# Altium integrated library TI Power Management Battery Management.IntLib: 949 symbols (part 45 of 62)
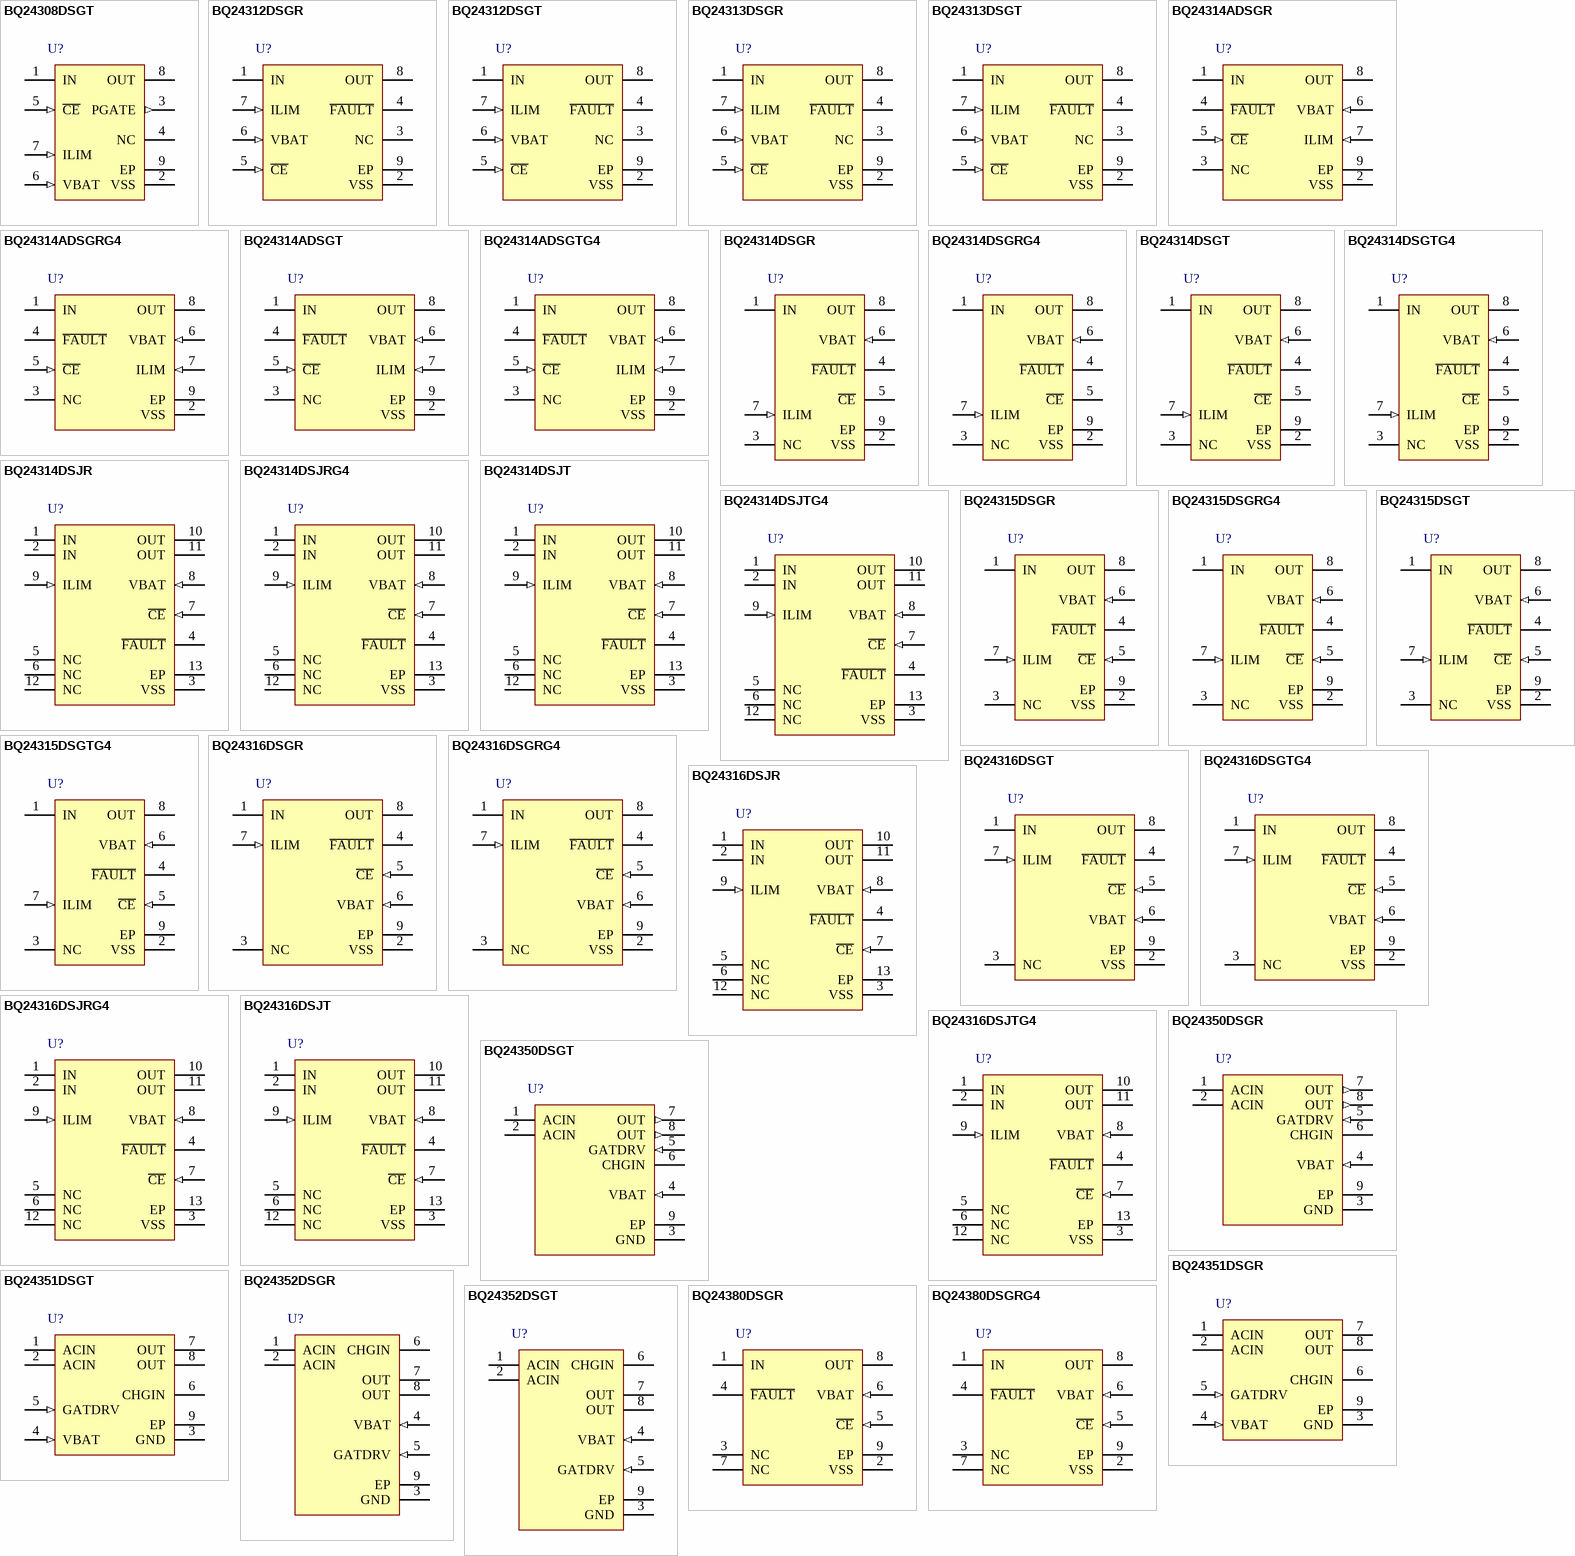
[diagram p78: symbols BQ24308DSGT to BQ24380DSGRG4]

## BQ24316DSJTG4
designator U?
Charger Front End Protection IC with 30 V Max Vin and 6.8 V OVP, -40 to 85 degC, 12-pin VSON (DSJ), Green (RoHS & no Sb/Br); PartNumber: BQ24316DSJTG4; Manufacturer: Texas Instruments; Lead Acid: N; DatasheetVersion: SLUS763C; PackageVersion: revC, Jun-2011; PackageReference: DSJ12-3300X1700TP; PackageDescription: 12-Pin Plastic Small Outline No-Lead, 3 x 4 x 1 mm Body, 0.5 mm Pitch, Exposed Pad; Supplier 1: Digi-Key; Supplier Part Number 1: BQ24316DSJTG4-ND; Supplier 2: Mouser; Supplier Part Number 2: 595-BQ24316DSJTG4; Eco-Plan: Green (RoHS & no Sb/Br); Li-Ion: N; Li-Polymer: N; NiCd: N; NiMH: N; Over Voltage Protection: N; SubFamily: Charger Front End Protection; Mounting Technology: Surface Mount; Code_JEDEC: MO-229; ComponentLink1Description: Datasheet; ComponentLink1URL: http://www.ti.com/general/docs/lit/getliterature.tsp?genericPartNumber=BQ24316&fileType=pdf
footprint DSJ12-3300X1700TP (SON, 12-Leads, Body 3x4mm, Pitch 0.5mm, Thermal Pad 3.3x1.7mm)
pins: 1 IN (power) "Input power, connect to external DC supply. Connect external 1uF ceramic capacitor (minimum) to VSS. For the 12 pin (DSJ-suffix) device, ensure that pins 1 and 2 are connected together on the PCB at the device.", 2 IN (power) "Input power, connect to external DC supply. Connect external 1uF ceramic capacitor (minimum) to VSS. For the 12 pin (DSJ-suffix) device, ensure that pins 1 and 2 are connected together on the PCB at the device.", 3 VSS (power) "Ground terminal", 4 ~{FAULT} (hiz) "Open-drain output, device status. F\A\U\L\T\ = Low indicates that the input FET Q1 has been turned off due to input overvoltage, input overcurrent, battery overvoltage, or thermal shutdown.", 5 NC "These pins may have internal circuits used for test purposes. Do not make any external connections at these pins for normal operation.", 6 NC "These pins may have internal circuits used for test purposes. Do not make any external connections at these pins for normal operation.", 7 ~{CE} (in) "Chip enable input. Active low. When C\E\ = High, the input FET is off. Internally pulled down.", 8 VBAT (in) "Battery voltage sense input. Connect to pack positive terminal through a resistor.", 9 ILIM (in) "Input overcurrent threshold programming. Connect a resistor to VSS to set the overcurrent threshold.", 10 OUT (power) "Output terminal to the charging system. Connect external 1uF ceramic capacitor (minimum) to VSS.", 11 OUT (power) "Output terminal to the charging system. Connect external 1uF ceramic capacitor (minimum) to VSS.", 12 NC "These pins may have internal circuits used for test purposes. Do not make any external connections at these pins for normal operation.", 13 EP (power) "There is an internal electrical connection between the exposed thermal pad and the VSS pin of the device. The thermal pad must be connected to the same potential as the VSS pin on the printed circuit board. Do not use the (See Datasheet)"

## BQ24350DSGR
designator U?
Over-Voltage and Over-Current Charger Front-End Protection IC with FET, 6.17 Input OVP, -40 to 85 degC, 8-pin WSON (DSG), Green (RoHS & no Sb/Br); PartNumber: BQ24350DSGR; Manufacturer: Texas Instruments; Lead Acid: N; SubFamily: Charger Front End Protection; DatasheetVersion: SLUS943A; PackageVersion: revB, Oct-2010; PackageReference: DSG8-1600X900TP; PackageDescription: 8-Pin Plastic Small Outline No-Lead, 2 x 2 x 0.8 mm Body, 0.5 mm Pitch, Exposed Pad; Supplier 1: Digi-Key; Supplier Part Number 1: 296-24528-2-ND; Supplier 2: Digi-Key; Supplier Part Number 2: 296-24528-1-ND; Supplier 3: Digi-Key; Supplier Part Number 3: 296-24528-6-ND; Supplier 4: Newark; Supplier Part Number 4: 24R9058; Supplier 5: Mouser; Supplier Part Number 5: 595-BQ24350DSGR; Eco-Plan: Green (RoHS & no Sb/Br); Li-Ion: N; Li-Polymer: N; NiCd: N; NiMH: N; Over Voltage Protection: N; Mounting Technology: Surface Mount; Code_JEDEC: MO-229; ComponentLink1Description: Datasheet; ComponentLink1URL: http://www.ti.com/general/docs/lit/getliterature.tsp?genericPartNumber=BQ24350&fileType=pdf
footprint DSG8-1600X900TP (SON, 8-Leads, Body 2x2mm, Pitch 0.5mm, Thermal Pad 1.6x0.9mm, TI Recommended)
pins: 1 ACIN (power) "Power Supply Input, connect to an external DC supply. Connect an external 1uF ceramic capacitor (minimum) to GND.", 2 ACIN (power) "Power Supply Input, connect to an external DC supply. Connect an external 1uF ceramic capacitor (minimum) to GND.", 3 GND (power) "Ground terminal", 4 VBAT (in) "Battery voltage sense input. Connected to pack positive terminal through a resistor. Connected to ground if battery OVP function is not used.", 5 GATDRV (in) "P-FET gate drive input , connected to gate drive pin of the host charger controller", 6 CHGIN (power) "Output power pin for power input of host charger controller. Connect an external ceramic bypass capacitor (1.0uF minimum) to GND.", 7 OUT (out) "Output terminal to the charging system.", 8 OUT (out) "Output terminal to the charging system.", 9 EP (power) "There is an internal electrical connection between the exposed thermal pad and the GND pin of the device. The thermal pad must be connected to the same potential as the GND pin on the printed circuit board. Do not use the (See Datasheet)"

## BQ24350DSGT
designator U?
Over-Voltage and Over-Current Charger Front-End Protection IC with FET, 6.17 Input OVP, -40 to 85 degC, 8-pin WSON (DSG), Green (RoHS & no Sb/Br); PartNumber: BQ24350DSGT; Manufacturer: Texas Instruments; Lead Acid: N; SubFamily: Charger Front End Protection; DatasheetVersion: SLUS943A; PackageVersion: revB, Oct-2010; PackageReference: DSG8-1600X900TP; PackageDescription: 8-Pin Plastic Small Outline No-Lead, 2 x 2 x 0.8 mm Body, 0.5 mm Pitch, Exposed Pad; Supplier 1: Digi-Key; Supplier Part Number 1: BQ24350DSGT-ND; Supplier 2: Newark; Supplier Part Number 2: 24R9059; Supplier 3: Mouser; Supplier Part Number 3: 595-BQ24350DSGT; Eco-Plan: Green (RoHS & no Sb/Br); Li-Ion: N; Li-Polymer: N; NiCd: N; NiMH: N; Over Voltage Protection: N; Mounting Technology: Surface Mount; Code_JEDEC: MO-229; ComponentLink1Description: Datasheet; ComponentLink1URL: http://www.ti.com/general/docs/lit/getliterature.tsp?genericPartNumber=BQ24350&fileType=pdf
footprint DSG8-1600X900TP (SON, 8-Leads, Body 2x2mm, Pitch 0.5mm, Thermal Pad 1.6x0.9mm, TI Recommended)
pins: 1 ACIN (power) "Power Supply Input, connect to an external DC supply. Connect an external 1uF ceramic capacitor (minimum) to GND.", 2 ACIN (power) "Power Supply Input, connect to an external DC supply. Connect an external 1uF ceramic capacitor (minimum) to GND.", 3 GND (power) "Ground terminal", 4 VBAT (in) "Battery voltage sense input. Connected to pack positive terminal through a resistor. Connected to ground if battery OVP function is not used.", 5 GATDRV (in) "P-FET gate drive input , connected to gate drive pin of the host charger controller", 6 CHGIN (power) "Output power pin for power input of host charger controller. Connect an external ceramic bypass capacitor (1.0uF minimum) to GND.", 7 OUT (out) "Output terminal to the charging system.", 8 OUT (out) "Output terminal to the charging system.", 9 EP (power) "There is an internal electrical connection between the exposed thermal pad and the GND pin of the device. The thermal pad must be connected to the same potential as the GND pin on the printed circuit board. Do not use the (See Datasheet)"

## BQ24351DSGR
designator U?
Over Voltage and Over-Current Charger Front-End Protection IC with Integrated Charging FET, -40 to 85 degC, 8-pin WSON (DSG), Green (RoHS & no Sb/Br); PartNumber: BQ24351DSGR; Manufacturer: Texas Instruments; Lead Acid: N; Over Voltage Protection: Y; SubFamily: Charger Front End Protection; DatasheetVersion: SLUSA62A; PackageVersion: revB, Oct-2010; PackageReference: DSG8-1600X900TP; PackageDescription: 8-Pin Plastic Small Outline No-Lead, 2 x 2 x 0.8 mm Body, 0.5 mm Pitch, Exposed Pad; Supplier 1: Digi-Key; Supplier Part Number 1: BQ24351DSGR-ND; Supplier 2: Mouser; Supplier Part Number 2: 595-BQ24351DSGR; Eco-Plan: Green (RoHS & no Sb/Br); Li-Ion: N; Li-Polymer: N; NiCd: N; NiMH: N; Mounting Technology: Surface Mount; Code_JEDEC: MO-229; ComponentLink1Description: Datasheet; ComponentLink1URL: http://www.ti.com/general/docs/lit/getliterature.tsp?genericPartNumber=BQ24351&fileType=pdf
footprint DSG8-1600X900TP (SON, 8-Leads, Body 2x2mm, Pitch 0.5mm, Thermal Pad 1.6x0.9mm, TI Recommended)
pins: 1 ACIN (power) "Power Supply Input, connect to an external DC supply. Connect an external 1-uF ceramic capacitor (minimum) to GND.", 2 ACIN (power) "Power Supply Input, connect to an external DC supply. Connect an external 1-uF ceramic capacitor (minimum) to GND.", 3 GND (power) "Ground terminal", 4 VBAT (in) "Battery voltage sense input. Connected to pack positive terminal through a resistor. Connected to ground if battery OVP function is not used.", 5 GATDRV (in) "P-FET gate drive input , connected to gate drive pin of the host charger controller", 6 CHGIN (power) "Output power pin for power input of host charger controller. Connect an external ceramic bypass capacitor (1.0-uF minimum) to GND.", 7 OUT (power) "Output terminal to the charging system.", 8 OUT (power) "Output terminal to the charging system.", 9 EP (power) "There is an internal electrical connection between the exposed thermal pad and the GND pin of the device. The thermal pad must be connected to the same potential as the GND pin on the printed circuit board. Do not use the (See Datasheet)"

## BQ24351DSGT
designator U?
Over-Voltage and Over-Current Charger Front-End Protection IC with Integrated Charging FET, -40 to 85 degC, 8-pin WSON (DSG), Green (RoHS & no Sb/Br); PartNumber: BQ24351DSGT; Manufacturer: Texas Instruments; Lead Acid: N; Over Voltage Protection: Y; SubFamily: Charger Front End Protection; DatasheetVersion: SLUSA62A; PackageVersion: revB, Oct-2010; PackageReference: DSG8-1600X900TP; PackageDescription: 8-Pin Plastic Small Outline No-Lead, 2 x 2 x 0.8 mm Body, 0.5 mm Pitch, Exposed Pad; Supplier 1: Digi-Key; Supplier Part Number 1: 296-27913-2-ND; Supplier 2: Digi-Key; Supplier Part Number 2: 296-27913-1-ND; Supplier 3: Digi-Key; Supplier Part Number 3: 296-27913-6-ND; Supplier 4: Newark; Supplier Part Number 4: 13T1943; Supplier 5: Mouser; Supplier Part Number 5: 595-BQ24351DSGT; Eco-Plan: Green (RoHS & no Sb/Br); Li-Ion: N; Li-Polymer: N; NiCd: N; NiMH: N; Mounting Technology: Surface Mount; Code_JEDEC: MO-229; ComponentLink1Description: Datasheet; ComponentLink1URL: http://www.ti.com/general/docs/lit/getliterature.tsp?genericPartNumber=BQ24351&fileType=pdf
footprint DSG8-1600X900TP (SON, 8-Leads, Body 2x2mm, Pitch 0.5mm, Thermal Pad 1.6x0.9mm, TI Recommended)
pins: 1 ACIN (power) "Power Supply Input, connect to an external DC supply. Connect an external 1-uF ceramic capacitor (minimum) to GND.", 2 ACIN (power) "Power Supply Input, connect to an external DC supply. Connect an external 1-uF ceramic capacitor (minimum) to GND.", 3 GND (power) "Ground terminal", 4 VBAT (in) "Battery voltage sense input. Connected to pack positive terminal through a resistor. Connected to ground if battery OVP function is not used.", 5 GATDRV (in) "P-FET gate drive input , connected to gate drive pin of the host charger controller", 6 CHGIN (power) "Output power pin for power input of host charger controller. Connect an external ceramic bypass capacitor (1.0-uF minimum) to GND.", 7 OUT (power) "Output terminal to the charging system.", 8 OUT (power) "Output terminal to the charging system.", 9 EP (power) "There is an internal electrical connection between the exposed thermal pad and the GND pin of the device. The thermal pad must be connected to the same potential as the GND pin on the printed circuit board. Do not use the (See Datasheet)"

## BQ24352DSGR
designator U?
Over Voltage and Over-Current Charger Front-End Protection IC with FET, 7.1 Input OVP, -40 to 85 degC, 8-pin WSON (DSG), Green (RoHS & no Sb/Br); PartNumber: BQ24352DSGR; Manufacturer: Texas Instruments; Lead Acid: N; SubFamily: Charger Front End Protection; DatasheetVersion: SLUS943A; PackageVersion: revB, Oct-2010; PackageReference: DSG8-1600X900TP; PackageDescription: 8-Pin Plastic Small Outline No-Lead, 2 x 2 x 0.8 mm Body, 0.5 mm Pitch, Exposed Pad; Supplier 1: Digi-Key; Supplier Part Number 1: 296-24859-2-ND; Supplier 2: Digi-Key; Supplier Part Number 2: 296-24859-1-ND; Supplier 3: Digi-Key; Supplier Part Number 3: 296-24859-6-ND; Supplier 4: Mouser; Supplier Part Number 4: 595-BQ24352DSGR; Eco-Plan: Green (RoHS & no Sb/Br); Li-Ion: N; Li-Polymer: N; NiCd: N; NiMH: N; Over Voltage Protection: N; Mounting Technology: Surface Mount; Code_JEDEC: MO-229; ComponentLink1Description: Datasheet; ComponentLink1URL: http://www.ti.com/general/docs/lit/getliterature.tsp?genericPartNumber=BQ24352&fileType=pdf
footprint DSG8-1600X900TP (SON, 8-Leads, Body 2x2mm, Pitch 0.5mm, Thermal Pad 1.6x0.9mm, TI Recommended)
pins: 1 ACIN (power) "Power Supply Input, connect to an external DC supply. Connect an external 1 uF ceramic capacitor (minimum) to GND.", 2 ACIN (power) "Power Supply Input, connect to an external DC supply. Connect an external 1 uF ceramic capacitor (minimum) to GND.", 3 GND (power) "Ground terminal.", 4 VBAT (in) "Battery voltage sense input. Connected to pack positive terminal through a resistor. Connected to ground if battery OVP function is not used.", 5 GATDRV (in) "P-FET gate drive input , connected to gate drive pin of the host charger controller.", 6 CHGIN (power) "Output power pin for power input of host charger controller. Connect an external ceramic bypass capacitor (1.0 uF minimum) to GND.", 7 OUT (power) "Output terminal to the charging system.", 8 OUT (power) "Output terminal to the charging system.", 9 EP (power) "There is an internal electrical connection between the exposed thermal pad and the GND pin of the device. The thermal pad must be connected to the same potential as the GND pin on the printed circuit board. Do not use the (See Datasheet)"

## BQ24352DSGT
designator U?
Over Voltage and Over-Current Charger Front-End Protection IC with FET, 7.1 Input OVP, -40 to 85 degC, 8-pin WSON (DSG), Green (RoHS & no Sb/Br); PartNumber: BQ24352DSGT; Manufacturer: Texas Instruments; Lead Acid: N; SubFamily: Charger Front End Protection; DatasheetVersion: SLUS943A; PackageVersion: revB, Oct-2010; PackageReference: DSG8-1600X900TP; PackageDescription: 8-Pin Plastic Small Outline No-Lead, 2 x 2 x 0.8 mm Body, 0.5 mm Pitch, Exposed Pad; Supplier 1: Digi-Key; Supplier Part Number 1: BQ24352DSGT-ND; Supplier 2: Mouser; Supplier Part Number 2: 595-BQ24352DSGT; Eco-Plan: Green (RoHS & no Sb/Br); Li-Ion: N; Li-Polymer: N; NiCd: N; NiMH: N; Over Voltage Protection: N; Mounting Technology: Surface Mount; Code_JEDEC: MO-229; ComponentLink1Description: Datasheet; ComponentLink1URL: http://www.ti.com/general/docs/lit/getliterature.tsp?genericPartNumber=BQ24352&fileType=pdf
footprint DSG8-1600X900TP (SON, 8-Leads, Body 2x2mm, Pitch 0.5mm, Thermal Pad 1.6x0.9mm, TI Recommended)
pins: 1 ACIN (power) "Power Supply Input, connect to an external DC supply. Connect an external 1 uF ceramic capacitor (minimum) to GND.", 2 ACIN (power) "Power Supply Input, connect to an external DC supply. Connect an external 1 uF ceramic capacitor (minimum) to GND.", 3 GND (power) "Ground terminal.", 4 VBAT (in) "Battery voltage sense input. Connected to pack positive terminal through a resistor. Connected to ground if battery OVP function is not used.", 5 GATDRV (in) "P-FET gate drive input , connected to gate drive pin of the host charger controller.", 6 CHGIN (power) "Output power pin for power input of host charger controller. Connect an external ceramic bypass capacitor (1.0 uF minimum) to GND.", 7 OUT (power) "Output terminal to the charging system.", 8 OUT (power) "Output terminal to the charging system.", 9 EP (power) "There is an internal electrical connection between the exposed thermal pad and the GND pin of the device. The thermal pad must be connected to the same potential as the GND pin on the printed circuit board. Do not use the (See Datasheet)"

## BQ24380DSGR
designator U?
Overvoltage / Overcurrent Protection IC and Li+ Charger Front End Protection IC with LDO Mode, 6.3 OVP, -40 to 125 degC, 8-pin WSON (DSG), Green (RoHS & no Sb/Br); PartNumber: BQ24380DSGR; Manufacturer: Texas Instruments; Lead Acid: N; DatasheetVersion: SLUS805B; PackageVersion: revB, Oct-2010; PackageReference: DSG8-1600X900TP; PackageDescription: 8-Pin Plastic Small Outline No-Lead, 2 x 2 x 0.8 mm Body, 0.5 mm Pitch, Exposed Pad; Supplier 1: Digi-Key; Supplier Part Number 1: 296-23385-2-ND; Supplier 2: Digi-Key; Supplier Part Number 2: 296-23385-1-ND; Supplier 3: Digi-Key; Supplier Part Number 3: 296-23385-6-ND; Supplier 4: Mouser; Supplier Part Number 4: 595-BQ24380DSGR; Eco-Plan: Green (RoHS & no Sb/Br); Li-Ion: N; Li-Polymer: N; NiCd: N; NiMH: N; Over Voltage Protection: N; SubFamily: Charger Front End Protection; Mounting Technology: Surface Mount; Code_JEDEC: MO-229; ComponentLink1Description: Datasheet; ComponentLink1URL: http://www.ti.com/general/docs/lit/getliterature.tsp?genericPartNumber=BQ24380&fileType=pdf
footprint DSG8-1600X900TP (SON, 8-Leads, Body 2x2mm, Pitch 0.5mm, Thermal Pad 1.6x0.9mm, TI Recommended)
pins: 1 IN (power) "Input power, connected to external DC supply. Bypass IN to VSS with a ceramic capacitor (1 uF minimum)", 2 VSS (power) "Ground terminal. Connect to the thermal pad and to the ground rail of the circuit", 3 NC "Do not connect to any external circuits. These pins may have internal connections used for test purposes.", 4 ~{FAULT} (hiz) "Open-drain device status output. F\A\U\L\T\ is pulled to VSS internally when the input pass FET has been turned off due to input overvoltage or output short-circuit conditions, an overtemperature condition, or because the (See Datasheet)", 5 ~{CE} (in) "Active-low chip enable input. Connect C\E\ = HI to turn the input pass FET off. Connect C\E\ = LOW to turn the internal pass FET on and connect the input to the charging circuitry. C\E\ is Internally pulled down, ~200 k ohm.", 6 VBAT (in) "Battery voltage sense input. Connected to pack positive terminal through a 100-k ohm resistor", 7 NC "Do not connect to any external circuits. These pins may have internal connections used for test purposes.", 8 OUT (power) "Output terminal to the charging system. Bypass OUT to VSS with a ceramic capacitor (1 uF minimum)", 9 EP (power) "The thermal pad is electrically connected to VSS internally. The thermal pad must be connected to the same potential as the VSS pin on the printed circuit board. Do not use the thermal pad as the primary ground input for the (See Datasheet)"

## BQ24380DSGRG4
designator U?
Overvoltage / Overcurrent Protection IC and Li+ Charger Front End Protection IC with LDO Mode, 6.3 OVP, -40 to 125 degC, 8-pin WSON (DSG), Green (RoHS & no Sb/Br); PartNumber: BQ24380DSGRG4; Manufacturer: Texas Instruments; Lead Acid: N; DatasheetVersion: SLUS805B; PackageVersion: revB, Oct-2010; PackageReference: DSG8-1600X900TP; PackageDescription: 8-Pin Plastic Small Outline No-Lead, 2 x 2 x 0.8 mm Body, 0.5 mm Pitch, Exposed Pad; Supplier 1: Digi-Key; Supplier Part Number 1: BQ24380DSGRG4-ND; Supplier 2: Mouser; Supplier Part Number 2: 595-BQ24380DSGRG4; Eco-Plan: Green (RoHS & no Sb/Br); Li-Ion: N; Li-Polymer: N; NiCd: N; NiMH: N; Over Voltage Protection: N; SubFamily: Charger Front End Protection; Mounting Technology: Surface Mount; Code_JEDEC: MO-229; ComponentLink1Description: Datasheet; ComponentLink1URL: http://www.ti.com/general/docs/lit/getliterature.tsp?genericPartNumber=BQ24380&fileType=pdf
footprint DSG8-1600X900TP (SON, 8-Leads, Body 2x2mm, Pitch 0.5mm, Thermal Pad 1.6x0.9mm, TI Recommended)
pins: 1 IN (power) "Input power, connected to external DC supply. Bypass IN to VSS with a ceramic capacitor (1 uF minimum)", 2 VSS (power) "Ground terminal. Connect to the thermal pad and to the ground rail of the circuit", 3 NC "Do not connect to any external circuits. These pins may have internal connections used for test purposes.", 4 ~{FAULT} (hiz) "Open-drain device status output. F\A\U\L\T\ is pulled to VSS internally when the input pass FET has been turned off due to input overvoltage or output short-circuit conditions, an overtemperature condition, or because the (See Datasheet)", 5 ~{CE} (in) "Active-low chip enable input. Connect C\E\ = HI to turn the input pass FET off. Connect C\E\ = LOW to turn the internal pass FET on and connect the input to the charging circuitry. C\E\ is Internally pulled down, ~200 k ohm.", 6 VBAT (in) "Battery voltage sense input. Connected to pack positive terminal through a 100-k ohm resistor", 7 NC "Do not connect to any external circuits. These pins may have internal connections used for test purposes.", 8 OUT (power) "Output terminal to the charging system. Bypass OUT to VSS with a ceramic capacitor (1 uF minimum)", 9 EP (power) "The thermal pad is electrically connected to VSS internally. The thermal pad must be connected to the same potential as the VSS pin on the printed circuit board. Do not use the thermal pad as the primary ground input for the (See Datasheet)"

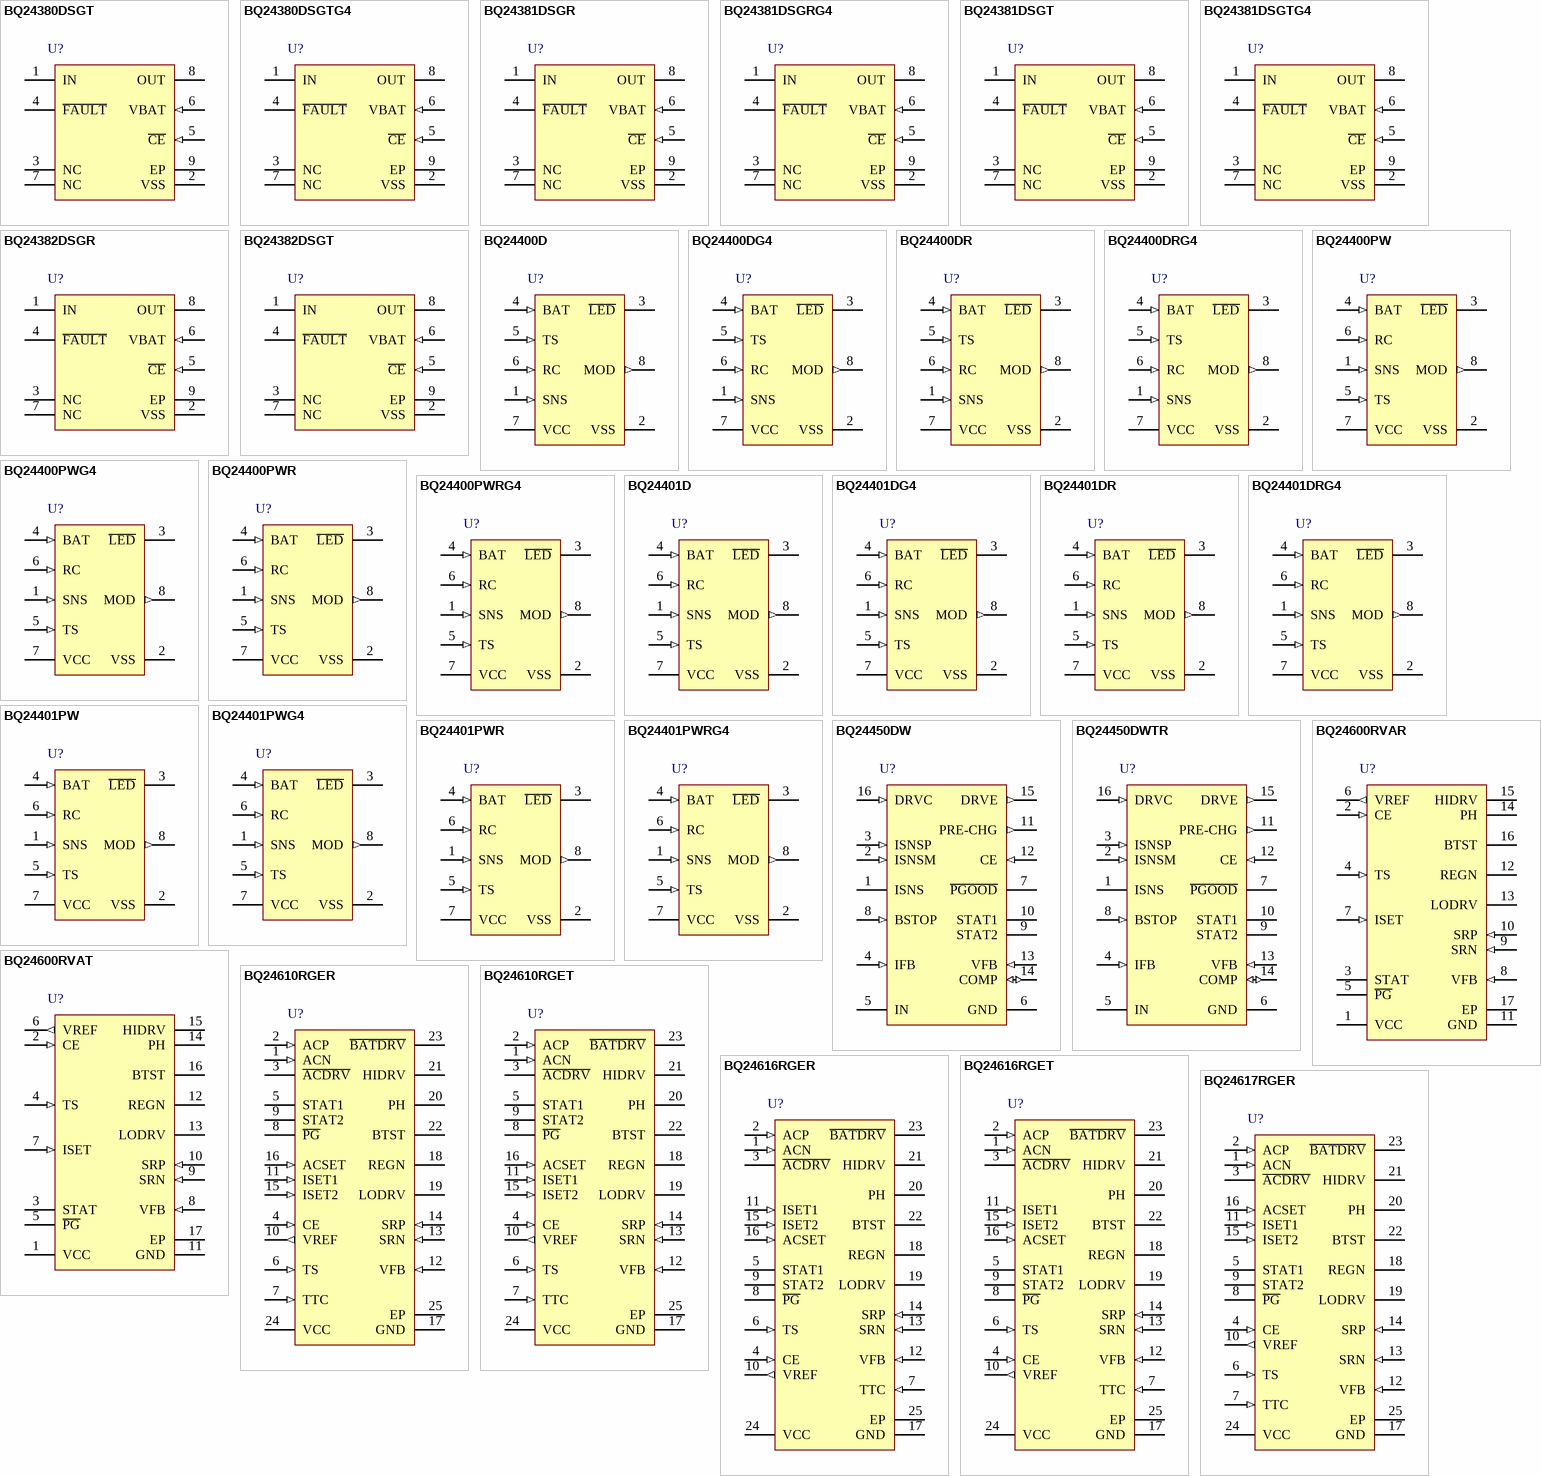
[diagram p24: symbols BQ24380DSGT to BQ24617RGER]

## BQ24380DSGT
designator U?
Overvoltage / Overcurrent Protection IC and Li+ Charger Front End Protection IC with LDO Mode, 6.3 OVP, -40 to 125 degC, 8-pin WSON (DSG), Green (RoHS & no Sb/Br); PartNumber: BQ24380DSGT; Manufacturer: Texas Instruments; Lead Acid: N; DatasheetVersion: SLUS805B; PackageVersion: revB, Oct-2010; PackageReference: DSG8-1600X900TP; PackageDescription: 8-Pin Plastic Small Outline No-Lead, 2 x 2 x 0.8 mm Body, 0.5 mm Pitch, Exposed Pad; Supplier 1: Digi-Key; Supplier Part Number 1: BQ24380DSGT-ND; Supplier 2: Mouser; Supplier Part Number 2: 595-BQ24380DSGT; Eco-Plan: Green (RoHS & no Sb/Br); Li-Ion: N; Li-Polymer: N; NiCd: N; NiMH: N; Over Voltage Protection: N; SubFamily: Charger Front End Protection; Mounting Technology: Surface Mount; Code_JEDEC: MO-229; ComponentLink1Description: Datasheet; ComponentLink1URL: http://www.ti.com/general/docs/lit/getliterature.tsp?genericPartNumber=BQ24380&fileType=pdf
footprint DSG8-1600X900TP (SON, 8-Leads, Body 2x2mm, Pitch 0.5mm, Thermal Pad 1.6x0.9mm, TI Recommended)
pins: 1 IN (power) "Input power, connected to external DC supply. Bypass IN to VSS with a ceramic capacitor (1 uF minimum)", 2 VSS (power) "Ground terminal. Connect to the thermal pad and to the ground rail of the circuit", 3 NC "Do not connect to any external circuits. These pins may have internal connections used for test purposes.", 4 ~{FAULT} (hiz) "Open-drain device status output. F\A\U\L\T\ is pulled to VSS internally when the input pass FET has been turned off due to input overvoltage or output short-circuit conditions, an overtemperature condition, or because the (See Datasheet)", 5 ~{CE} (in) "Active-low chip enable input. Connect C\E\ = HI to turn the input pass FET off. Connect C\E\ = LOW to turn the internal pass FET on and connect the input to the charging circuitry. C\E\ is Internally pulled down, ~200 k ohm.", 6 VBAT (in) "Battery voltage sense input. Connected to pack positive terminal through a 100-k ohm resistor", 7 NC "Do not connect to any external circuits. These pins may have internal connections used for test purposes.", 8 OUT (power) "Output terminal to the charging system. Bypass OUT to VSS with a ceramic capacitor (1 uF minimum)", 9 EP (power) "The thermal pad is electrically connected to VSS internally. The thermal pad must be connected to the same potential as the VSS pin on the printed circuit board. Do not use the thermal pad as the primary ground input for the (See Datasheet)"

## BQ24380DSGTG4
designator U?
Overvoltage / Overcurrent Protection IC and Li+ Charger Front End Protection IC with LDO Mode, 6.3 OVP, -40 to 125 degC, 8-pin WSON (DSG), Green (RoHS & no Sb/Br); PartNumber: BQ24380DSGTG4; Manufacturer: Texas Instruments; Lead Acid: N; DatasheetVersion: SLUS805B; PackageVersion: revB, Oct-2010; PackageReference: DSG8-1600X900TP; PackageDescription: 8-Pin Plastic Small Outline No-Lead, 2 x 2 x 0.8 mm Body, 0.5 mm Pitch, Exposed Pad; Supplier 1: Digi-Key; Supplier Part Number 1: BQ24380DSGTG4-ND; Supplier 2: Mouser; Supplier Part Number 2: 595-BQ24380DSGTG4; Eco-Plan: Green (RoHS & no Sb/Br); Li-Ion: N; Li-Polymer: N; NiCd: N; NiMH: N; Over Voltage Protection: N; SubFamily: Charger Front End Protection; Mounting Technology: Surface Mount; Code_JEDEC: MO-229; ComponentLink1Description: Datasheet; ComponentLink1URL: http://www.ti.com/general/docs/lit/getliterature.tsp?genericPartNumber=BQ24380&fileType=pdf
footprint DSG8-1600X900TP (SON, 8-Leads, Body 2x2mm, Pitch 0.5mm, Thermal Pad 1.6x0.9mm, TI Recommended)
pins: 1 IN (power) "Input power, connected to external DC supply. Bypass IN to VSS with a ceramic capacitor (1 uF minimum)", 2 VSS (power) "Ground terminal. Connect to the thermal pad and to the ground rail of the circuit", 3 NC "Do not connect to any external circuits. These pins may have internal connections used for test purposes.", 4 ~{FAULT} (hiz) "Open-drain device status output. F\A\U\L\T\ is pulled to VSS internally when the input pass FET has been turned off due to input overvoltage or output short-circuit conditions, an overtemperature condition, or because the (See Datasheet)", 5 ~{CE} (in) "Active-low chip enable input. Connect C\E\ = HI to turn the input pass FET off. Connect C\E\ = LOW to turn the internal pass FET on and connect the input to the charging circuitry. C\E\ is Internally pulled down, ~200 k ohm.", 6 VBAT (in) "Battery voltage sense input. Connected to pack positive terminal through a 100-k ohm resistor", 7 NC "Do not connect to any external circuits. These pins may have internal connections used for test purposes.", 8 OUT (power) "Output terminal to the charging system. Bypass OUT to VSS with a ceramic capacitor (1 uF minimum)", 9 EP (power) "The thermal pad is electrically connected to VSS internally. The thermal pad must be connected to the same potential as the VSS pin on the printed circuit board. Do not use the thermal pad as the primary ground input for the (See Datasheet)"

## BQ24381DSGR
designator U?
Overvoltage / Overcurrent Protection IC and Li+ Charger Front End Protection IC with LDO Mode, 7.1 OVP, -40 to 125 degC, 8-pin WSON (DSG), Green (RoHS & no Sb/Br); PartNumber: BQ24381DSGR; Manufacturer: Texas Instruments; Lead Acid: N; DatasheetVersion: SLUS805B; PackageVersion: revB, Oct-2010; PackageReference: DSG8-1600X900TP; PackageDescription: 8-Pin Plastic Small Outline No-Lead, 2 x 2 x 0.8 mm Body, 0.5 mm Pitch, Exposed Pad; Supplier 1: Digi-Key; Supplier Part Number 1: 296-23444-2-ND; Supplier 2: Digi-Key; Supplier Part Number 2: 296-23444-1-ND; Supplier 3: Digi-Key; Supplier Part Number 3: 296-23444-6-ND; Supplier 4: Mouser; Supplier Part Number 4: 595-BQ24381DSGR; Eco-Plan: Green (RoHS & no Sb/Br); Li-Ion: N; Li-Polymer: N; NiCd: N; NiMH: N; Over Voltage Protection: N; SubFamily: Charger Front End Protection; Mounting Technology: Surface Mount; Code_JEDEC: MO-229; ComponentLink1Description: Datasheet; ComponentLink1URL: http://www.ti.com/general/docs/lit/getliterature.tsp?genericPartNumber=BQ24381&fileType=pdf
footprint DSG8-1600X900TP (SON, 8-Leads, Body 2x2mm, Pitch 0.5mm, Thermal Pad 1.6x0.9mm, TI Recommended)
pins: 1 IN (power) "Input power, connected to external DC supply. Bypass IN to VSS with a ceramic capacitor (1 uF minimum)", 2 VSS (power) "Ground terminal. Connect to the thermal pad and to the ground rail of the circuit", 3 NC "Do not connect to any external circuits. These pins may have internal connections used for test purposes.", 4 ~{FAULT} (hiz) "Open-drain device status output. F\A\U\L\T\ is pulled to VSS internally when the input pass FET has been turned off due to input overvoltage or output short-circuit conditions, an overtemperature condition, or because the (See Datasheet)", 5 ~{CE} (in) "Active-low chip enable input. Connect C\E\ = HI to turn the input pass FET off. Connect C\E\ = LOW to turn the internal pass FET on and connect the input to the charging circuitry. C\E\ is Internally pulled down, ~200 k ohm.", 6 VBAT (in) "Battery voltage sense input. Connected to pack positive terminal through a 100-k ohm resistor", 7 NC "Do not connect to any external circuits. These pins may have internal connections used for test purposes.", 8 OUT (power) "Output terminal to the charging system. Bypass OUT to VSS with a ceramic capacitor (1 uF minimum)", 9 EP (power) "The thermal pad is electrically connected to VSS internally. The thermal pad must be connected to the same potential as the VSS pin on the printed circuit board. Do not use the thermal pad as the primary ground input for the (See Datasheet)"

## BQ24381DSGRG4
designator U?
Overvoltage / Overcurrent Protection IC and Li+ Charger Front End Protection IC with LDO Mode, 7.1 OVP, -40 to 125 degC, 8-pin WSON (DSG), Green (RoHS & no Sb/Br); PartNumber: BQ24381DSGRG4; Manufacturer: Texas Instruments; Lead Acid: N; DatasheetVersion: SLUS805B; PackageVersion: revB, Oct-2010; PackageReference: DSG8-1600X900TP; PackageDescription: 8-Pin Plastic Small Outline No-Lead, 2 x 2 x 0.8 mm Body, 0.5 mm Pitch, Exposed Pad; Supplier 1: Digi-Key; Supplier Part Number 1: BQ24381DSGRG4-ND; Supplier 2: Mouser; Supplier Part Number 2: 595-BQ24381DSGRG4; Eco-Plan: Green (RoHS & no Sb/Br); Li-Ion: N; Li-Polymer: N; NiCd: N; NiMH: N; Over Voltage Protection: N; SubFamily: Charger Front End Protection; Mounting Technology: Surface Mount; Code_JEDEC: MO-229; ComponentLink1Description: Datasheet; ComponentLink1URL: http://www.ti.com/general/docs/lit/getliterature.tsp?genericPartNumber=BQ24381&fileType=pdf
footprint DSG8-1600X900TP (SON, 8-Leads, Body 2x2mm, Pitch 0.5mm, Thermal Pad 1.6x0.9mm, TI Recommended)
pins: 1 IN (power) "Input power, connected to external DC supply. Bypass IN to VSS with a ceramic capacitor (1 uF minimum)", 2 VSS (power) "Ground terminal. Connect to the thermal pad and to the ground rail of the circuit", 3 NC "Do not connect to any external circuits. These pins may have internal connections used for test purposes.", 4 ~{FAULT} (hiz) "Open-drain device status output. F\A\U\L\T\ is pulled to VSS internally when the input pass FET has been turned off due to input overvoltage or output short-circuit conditions, an overtemperature condition, or because the (See Datasheet)", 5 ~{CE} (in) "Active-low chip enable input. Connect C\E\ = HI to turn the input pass FET off. Connect C\E\ = LOW to turn the internal pass FET on and connect the input to the charging circuitry. C\E\ is Internally pulled down, ~200 k ohm.", 6 VBAT (in) "Battery voltage sense input. Connected to pack positive terminal through a 100-k ohm resistor", 7 NC "Do not connect to any external circuits. These pins may have internal connections used for test purposes.", 8 OUT (power) "Output terminal to the charging system. Bypass OUT to VSS with a ceramic capacitor (1 uF minimum)", 9 EP (power) "The thermal pad is electrically connected to VSS internally. The thermal pad must be connected to the same potential as the VSS pin on the printed circuit board. Do not use the thermal pad as the primary ground input for the (See Datasheet)"

## BQ24381DSGT
designator U?
Overvoltage / Overcurrent Protection IC and Li+ Charger Front End Protection IC with LDO Mode, 7.1 OVP, -40 to 125 degC, 8-pin WSON (DSG), Green (RoHS & no Sb/Br); PartNumber: BQ24381DSGT; Manufacturer: Texas Instruments; Lead Acid: N; DatasheetVersion: SLUS805B; PackageVersion: revB, Oct-2010; PackageReference: DSG8-1600X900TP; PackageDescription: 8-Pin Plastic Small Outline No-Lead, 2 x 2 x 0.8 mm Body, 0.5 mm Pitch, Exposed Pad; Supplier 1: Digi-Key; Supplier Part Number 1: BQ24381DSGT-ND; Supplier 2: Farnell; Supplier Part Number 2: 1647898; Supplier 3: Mouser; Supplier Part Number 3: 595-BQ24381DSGT; Eco-Plan: Green (RoHS & no Sb/Br); Li-Ion: N; Li-Polymer: N; NiCd: N; NiMH: N; Over Voltage Protection: N; SubFamily: Charger Front End Protection; Mounting Technology: Surface Mount; Code_JEDEC: MO-229; ComponentLink1Description: Datasheet; ComponentLink1URL: http://www.ti.com/general/docs/lit/getliterature.tsp?genericPartNumber=BQ24381&fileType=pdf
footprint DSG8-1600X900TP (SON, 8-Leads, Body 2x2mm, Pitch 0.5mm, Thermal Pad 1.6x0.9mm, TI Recommended)
pins: 1 IN (power) "Input power, connected to external DC supply. Bypass IN to VSS with a ceramic capacitor (1 uF minimum)", 2 VSS (power) "Ground terminal. Connect to the thermal pad and to the ground rail of the circuit", 3 NC "Do not connect to any external circuits. These pins may have internal connections used for test purposes.", 4 ~{FAULT} (hiz) "Open-drain device status output. F\A\U\L\T\ is pulled to VSS internally when the input pass FET has been turned off due to input overvoltage or output short-circuit conditions, an overtemperature condition, or because the (See Datasheet)", 5 ~{CE} (in) "Active-low chip enable input. Connect C\E\ = HI to turn the input pass FET off. Connect C\E\ = LOW to turn the internal pass FET on and connect the input to the charging circuitry. C\E\ is Internally pulled down, ~200 k ohm.", 6 VBAT (in) "Battery voltage sense input. Connected to pack positive terminal through a 100-k ohm resistor", 7 NC "Do not connect to any external circuits. These pins may have internal connections used for test purposes.", 8 OUT (power) "Output terminal to the charging system. Bypass OUT to VSS with a ceramic capacitor (1 uF minimum)", 9 EP (power) "The thermal pad is electrically connected to VSS internally. The thermal pad must be connected to the same potential as the VSS pin on the printed circuit board. Do not use the thermal pad as the primary ground input for the (See Datasheet)"

## BQ24381DSGTG4
designator U?
Overvoltage / Overcurrent Protection IC and Li+ Charger Front End Protection IC with LDO Mode, 7.1 OVP, -40 to 125 degC, 8-pin WSON (DSG), Green (RoHS & no Sb/Br); PartNumber: BQ24381DSGTG4; Manufacturer: Texas Instruments; Lead Acid: N; DatasheetVersion: SLUS805B; PackageVersion: revB, Oct-2010; PackageReference: DSG8-1600X900TP; PackageDescription: 8-Pin Plastic Small Outline No-Lead, 2 x 2 x 0.8 mm Body, 0.5 mm Pitch, Exposed Pad; Supplier 1: Digi-Key; Supplier Part Number 1: BQ24381DSGTG4-ND; Supplier 2: Mouser; Supplier Part Number 2: 595-BQ24381DSGTG4; Eco-Plan: Green (RoHS & no Sb/Br); Li-Ion: N; Li-Polymer: N; NiCd: N; NiMH: N; Over Voltage Protection: N; SubFamily: Charger Front End Protection; Mounting Technology: Surface Mount; Code_JEDEC: MO-229; ComponentLink1Description: Datasheet; ComponentLink1URL: http://www.ti.com/general/docs/lit/getliterature.tsp?genericPartNumber=BQ24381&fileType=pdf
footprint DSG8-1600X900TP (SON, 8-Leads, Body 2x2mm, Pitch 0.5mm, Thermal Pad 1.6x0.9mm, TI Recommended)
pins: 1 IN (power) "Input power, connected to external DC supply. Bypass IN to VSS with a ceramic capacitor (1 uF minimum)", 2 VSS (power) "Ground terminal. Connect to the thermal pad and to the ground rail of the circuit", 3 NC "Do not connect to any external circuits. These pins may have internal connections used for test purposes.", 4 ~{FAULT} (hiz) "Open-drain device status output. F\A\U\L\T\ is pulled to VSS internally when the input pass FET has been turned off due to input overvoltage or output short-circuit conditions, an overtemperature condition, or because the (See Datasheet)", 5 ~{CE} (in) "Active-low chip enable input. Connect C\E\ = HI to turn the input pass FET off. Connect C\E\ = LOW to turn the internal pass FET on and connect the input to the charging circuitry. C\E\ is Internally pulled down, ~200 k ohm.", 6 VBAT (in) "Battery voltage sense input. Connected to pack positive terminal through a 100-k ohm resistor", 7 NC "Do not connect to any external circuits. These pins may have internal connections used for test purposes.", 8 OUT (power) "Output terminal to the charging system. Bypass OUT to VSS with a ceramic capacitor (1 uF minimum)", 9 EP (power) "The thermal pad is electrically connected to VSS internally. The thermal pad must be connected to the same potential as the VSS pin on the printed circuit board. Do not use the thermal pad as the primary ground input for the (See Datasheet)"

## BQ24382DSGR
designator U?
Overvoltage / Overcurrent Protection IC and Li+ Charger Front-End Protection IC with LDO Mode, 10.5 OVP, -40 to 125 degC, 8-pin WSON (DSG), Green (RoHS & no Sb/Br); PartNumber: BQ24382DSGR; Manufacturer: Texas Instruments; Lead Acid: N; SubFamily: Charger Front End Protection; DatasheetVersion: SLUS805B; PackageVersion: revB, Oct-2010; PackageReference: DSG8-1600X900TP; PackageDescription: 8-Pin Plastic Small Outline No-Lead, 2 x 2 x 0.8 mm Body, 0.5 mm Pitch, Exposed Pad; Supplier 1: Digi-Key; Supplier Part Number 1: 296-24248-2-ND; Supplier 2: Digi-Key; Supplier Part Number 2: 296-24248-1-ND; Supplier 3: Digi-Key; Supplier Part Number 3: 296-24248-6-ND; Supplier 4: Mouser; Supplier Part Number 4: 595-BQ24382DSGR; Eco-Plan: Green (RoHS & no Sb/Br); Li-Ion: N; Li-Polymer: N; NiCd: N; NiMH: N; Over Voltage Protection: N; Mounting Technology: Surface Mount; Code_JEDEC: MO-229; ComponentLink1Description: Datasheet; ComponentLink1URL: http://www.ti.com/general/docs/lit/getliterature.tsp?genericPartNumber=BQ24382&fileType=pdf
footprint DSG8-1600X900TP (SON, 8-Leads, Body 2x2mm, Pitch 0.5mm, Thermal Pad 1.6x0.9mm, TI Recommended)
pins: 1 IN (power) "Input power, connected to external DC supply. Bypass IN to VSS with a ceramic capacitor (1 uF minimum)", 2 VSS (power) "Ground terminal. Connect to the thermal pad and to the ground rail of the circuit", 3 NC "Do not connect to any external circuits. These pins may have internal connections used for test purposes.", 4 ~{FAULT} (hiz) "Open-drain device status output. F\A\U\L\T\ is pulled to VSS internally when the input pass FET has been turned off due to input overvoltage or output short-circuit conditions, an overtemperature condition, or because the (See Datasheet)", 5 ~{CE} (in) "Active-low chip enable input. Connect C\E\ = HI to turn the input pass FET off. Connect C\E\ = LOW to turn the internal pass FET on and connect the input to the charging circuitry. C\E\ is Internally pulled down, ~200 k ohm.", 6 VBAT (in) "Battery voltage sense input. Connected to pack positive terminal through a 100-k ohm resistor", 7 NC "Do not connect to any external circuits. These pins may have internal connections used for test purposes.", 8 OUT (power) "Output terminal to the charging system. Bypass OUT to VSS with a ceramic capacitor (1 uF minimum)", 9 EP (power) "The thermal pad is electrically connected to VSS internally. The thermal pad must be connected to the same potential as the VSS pin on the printed circuit board. Do not use the thermal pad as the primary ground input for the (See Datasheet)"

## BQ24382DSGT
designator U?
Overvoltage / Overcurrent Protection IC and Li+ Charger Front-End Protection IC with LDO Mode, 10.5 OVP, -40 to 125 degC, 8-pin WSON (DSG), Green (RoHS & no Sb/Br); PartNumber: BQ24382DSGT; Manufacturer: Texas Instruments; Lead Acid: N; SubFamily: Charger Front End Protection; DatasheetVersion: SLUS805B; PackageVersion: revB, Oct-2010; PackageReference: DSG8-1600X900TP; PackageDescription: 8-Pin Plastic Small Outline No-Lead, 2 x 2 x 0.8 mm Body, 0.5 mm Pitch, Exposed Pad; Supplier 1: Digi-Key; Supplier Part Number 1: BQ24382DSGT-ND; Supplier 2: Mouser; Supplier Part Number 2: 595-BQ24382DSGT; Eco-Plan: Green (RoHS & no Sb/Br); Li-Ion: N; Li-Polymer: N; NiCd: N; NiMH: N; Over Voltage Protection: N; Mounting Technology: Surface Mount; Code_JEDEC: MO-229; ComponentLink1Description: Datasheet; ComponentLink1URL: http://www.ti.com/general/docs/lit/getliterature.tsp?genericPartNumber=BQ24382&fileType=pdf
footprint DSG8-1600X900TP (SON, 8-Leads, Body 2x2mm, Pitch 0.5mm, Thermal Pad 1.6x0.9mm, TI Recommended)
pins: 1 IN (power) "Input power, connected to external DC supply. Bypass IN to VSS with a ceramic capacitor (1 uF minimum)", 2 VSS (power) "Ground terminal. Connect to the thermal pad and to the ground rail of the circuit", 3 NC "Do not connect to any external circuits. These pins may have internal connections used for test purposes.", 4 ~{FAULT} (hiz) "Open-drain device status output. F\A\U\L\T\ is pulled to VSS internally when the input pass FET has been turned off due to input overvoltage or output short-circuit conditions, an overtemperature condition, or because the (See Datasheet)", 5 ~{CE} (in) "Active-low chip enable input. Connect C\E\ = HI to turn the input pass FET off. Connect C\E\ = LOW to turn the internal pass FET on and connect the input to the charging circuitry. C\E\ is Internally pulled down, ~200 k ohm.", 6 VBAT (in) "Battery voltage sense input. Connected to pack positive terminal through a 100-k ohm resistor", 7 NC "Do not connect to any external circuits. These pins may have internal connections used for test purposes.", 8 OUT (power) "Output terminal to the charging system. Bypass OUT to VSS with a ceramic capacitor (1 uF minimum)", 9 EP (power) "The thermal pad is electrically connected to VSS internally. The thermal pad must be connected to the same potential as the VSS pin on the printed circuit board. Do not use the thermal pad as the primary ground input for the (See Datasheet)"

## BQ24400D
designator U?
Switch-Mode NiCd / NiMH Battery Charger with Peak Voltage Detection Termination, 4 V, -20 to 70 degC, 8-pin SOIC (D), Green (RoHS & no Sb/Br); PartNumber: BQ24400D; Manufacturer: Texas Instruments; Lead Acid: N; NiCd: Y; SubFamily: Battery Charge Management; Vin(Min)(V): 4; DatasheetVersion: SLUS498A; PackageVersion: revM, Jun-2011; PackageReference: D8; PackageDescription: 8-Pin Plastic Small Outline Integrated Circuit, 4.9 x 3.9 mm, Pitch 1.27 mm Pitch; Supplier 1: Digi-Key; Supplier Part Number 1: 296-12622-5-ND; Supplier 2: Newark; Supplier Part Number 2: 74C7663; Supplier 3: Mouser; Supplier Part Number 3: 595-BQ24400D; Eco-Plan: Green (RoHS & no Sb/Br); Li-Ion: N; Li-Polymer: N; NiMH: Y; Over Voltage Protection: N; Mounting Technology: Surface Mount; Code_JEDEC: MS-012AA; ComponentLink1Description: Datasheet; ComponentLink1URL: http://www.ti.com/general/docs/lit/getliterature.tsp?genericPartNumber=BQ24400&fileType=pdf
footprint D8_N (SOIC, 8-Leads, Body 4.9x3.9mm, Pitch 1.27mm, IPC Medium Density)
footprint D8_L (SOIC, 8-Leads, Body 4.9x3.9mm, Pitch 1.27mm, IPC High Density)
footprint D8_M (SOIC, 8-Leads, Body 4.9x3.9mm, Pitch 1.27mm, IPC Low Density)
pins: 1 SNS (in) "Current-sense input", 2 VSS (power) "System ground", 3 ~{LED} (hiz) "Charge-status output", 4 BAT (in) "Battery-voltage input", 5 TS (in) "Temperature-sense input", 6 RC (in) "Timer-program input", 7 VCC (power) "Supply-voltage input", 8 MOD (out) "Modulation-control output"

## BQ24400DG4
designator U?
Switch-Mode NiCd / NiMH Battery Charger with Peak Voltage Detection Termination, 4 V, -20 to 70 degC, 8-pin SOIC (D), Green (RoHS & no Sb/Br); PartNumber: BQ24400DG4; Manufacturer: Texas Instruments; Lead Acid: N; NiCd: Y; SubFamily: Battery Charge Management; Vin(Min)(V): 4; DatasheetVersion: SLUS498A; PackageVersion: revM, Jun-2011; PackageReference: D8; PackageDescription: 8-Pin Plastic Small Outline Integrated Circuit, 4.9 x 3.9 mm, Pitch 1.27 mm Pitch; Supplier 1: Digi-Key; Supplier Part Number 1: BQ24400DG4-ND; Supplier 2: Newark; Supplier Part Number 2: 13M6215; Supplier 3: Mouser; Supplier Part Number 3: 595-BQ24400DG4; Eco-Plan: Green (RoHS & no Sb/Br); Li-Ion: N; Li-Polymer: N; NiMH: Y; Over Voltage Protection: N; Mounting Technology: Surface Mount; Code_JEDEC: MS-012AA; ComponentLink1Description: Datasheet; ComponentLink1URL: http://www.ti.com/general/docs/lit/getliterature.tsp?genericPartNumber=BQ24400&fileType=pdf
footprint D8_N (SOIC, 8-Leads, Body 4.9x3.9mm, Pitch 1.27mm, IPC Medium Density)
footprint D8_L (SOIC, 8-Leads, Body 4.9x3.9mm, Pitch 1.27mm, IPC High Density)
footprint D8_M (SOIC, 8-Leads, Body 4.9x3.9mm, Pitch 1.27mm, IPC Low Density)
pins: 1 SNS (in) "Current-sense input", 2 VSS (power) "System ground", 3 ~{LED} (hiz) "Charge-status output", 4 BAT (in) "Battery-voltage input", 5 TS (in) "Temperature-sense input", 6 RC (in) "Timer-program input", 7 VCC (power) "Supply-voltage input", 8 MOD (out) "Modulation-control output"

## BQ24400DR
designator U?
Switch-Mode NiCd / NiMH Battery Charger with Peak Voltage Detection Termination, 4 V, -20 to 70 degC, 8-pin SOIC (D), Green (RoHS & no Sb/Br); PartNumber: BQ24400DR; Manufacturer: Texas Instruments; Lead Acid: N; NiCd: Y; SubFamily: Battery Charge Management; Vin(Min)(V): 4; DatasheetVersion: SLUS498A; PackageVersion: revM, Jun-2011; PackageReference: D8; PackageDescription: 8-Pin Plastic Small Outline Integrated Circuit, 4.9 x 3.9 mm, Pitch 1.27 mm Pitch; Supplier 1: Digi-Key; Supplier Part Number 1: 296-29457-2-ND; Supplier 2: Digi-Key; Supplier Part Number 2: 296-29457-1-ND; Supplier 3: Digi-Key; Supplier Part Number 3: 296-29457-6-ND; Supplier 4: Newark; Supplier Part Number 4: 74C7664; Supplier 5: Mouser; Supplier Part Number 5: 595-BQ24400DR; Eco-Plan: Green (RoHS & no Sb/Br); Li-Ion: N; Li-Polymer: N; NiMH: Y; Over Voltage Protection: N; Mounting Technology: Surface Mount; Code_JEDEC: MS-012AA; ComponentLink1Description: Datasheet; ComponentLink1URL: http://www.ti.com/general/docs/lit/getliterature.tsp?genericPartNumber=BQ24400&fileType=pdf
footprint D8_N (SOIC, 8-Leads, Body 4.9x3.9mm, Pitch 1.27mm, IPC Medium Density)
footprint D8_L (SOIC, 8-Leads, Body 4.9x3.9mm, Pitch 1.27mm, IPC High Density)
footprint D8_M (SOIC, 8-Leads, Body 4.9x3.9mm, Pitch 1.27mm, IPC Low Density)
pins: 1 SNS (in) "Current-sense input", 2 VSS (power) "System ground", 3 ~{LED} (hiz) "Charge-status output", 4 BAT (in) "Battery-voltage input", 5 TS (in) "Temperature-sense input", 6 RC (in) "Timer-program input", 7 VCC (power) "Supply-voltage input", 8 MOD (out) "Modulation-control output"

## BQ24400DRG4
designator U?
Switch-Mode NiCd / NiMH Battery Charger with Peak Voltage Detection Termination, 4 V, -20 to 70 degC, 8-pin SOIC (D), Green (RoHS & no Sb/Br); PartNumber: BQ24400DRG4; Manufacturer: Texas Instruments; Lead Acid: N; NiCd: Y; SubFamily: Battery Charge Management; Vin(Min)(V): 4; DatasheetVersion: SLUS498A; PackageVersion: revM, Jun-2011; PackageReference: D8; PackageDescription: 8-Pin Plastic Small Outline Integrated Circuit, 4.9 x 3.9 mm, Pitch 1.27 mm Pitch; Supplier 1: Digi-Key; Supplier Part Number 1: BQ24400DRG4-ND; Supplier 2: Newark; Supplier Part Number 2: 13M6216; Supplier 3: Mouser; Supplier Part Number 3: 595-BQ24400DRG4; Eco-Plan: Green (RoHS & no Sb/Br); Li-Ion: N; Li-Polymer: N; NiMH: Y; Over Voltage Protection: N; Mounting Technology: Surface Mount; Code_JEDEC: MS-012AA; ComponentLink1Description: Datasheet; ComponentLink1URL: http://www.ti.com/general/docs/lit/getliterature.tsp?genericPartNumber=BQ24400&fileType=pdf
footprint D8_N (SOIC, 8-Leads, Body 4.9x3.9mm, Pitch 1.27mm, IPC Medium Density)
footprint D8_L (SOIC, 8-Leads, Body 4.9x3.9mm, Pitch 1.27mm, IPC High Density)
footprint D8_M (SOIC, 8-Leads, Body 4.9x3.9mm, Pitch 1.27mm, IPC Low Density)
pins: 1 SNS (in) "Current-sense input", 2 VSS (power) "System ground", 3 ~{LED} (hiz) "Charge-status output", 4 BAT (in) "Battery-voltage input", 5 TS (in) "Temperature-sense input", 6 RC (in) "Timer-program input", 7 VCC (power) "Supply-voltage input", 8 MOD (out) "Modulation-control output"

## BQ24400PW
designator U?
Switch-Mode NiCd / NiMH Battery Charger with Peak Voltage Detection Termination, 4 V, -20 to 70 degC, 8-pin TSSOP (PW), Green (RoHS & no Sb/Br); PartNumber: BQ24400PW; Manufacturer: Texas Instruments; Lead Acid: N; NiCd: Y; SubFamily: Battery Charge Management; Vin(Min)(V): 4; DatasheetVersion: SLUS498A; PackageVersion: revG, Feb-2011; PackageReference: PW8; PackageDescription: 8-Pin Plastic Thin Small Outline Package 3 x 4.4 mm Body ,0.65 mm Pitch; Supplier 1: Digi-Key; Supplier Part Number 1: 296-12623-5-ND; Supplier 2: Newark; Supplier Part Number 2: 74C7665; Supplier 3: Mouser; Supplier Part Number 3: 595-BQ24400PW; Eco-Plan: Green (RoHS & no Sb/Br); Li-Ion: N; Li-Polymer: N; NiMH: Y; Over Voltage Protection: N; Mounting Technology: Surface Mount; Code_JEDEC: MO-153; ComponentLink1Description: Datasheet; ComponentLink1URL: http://www.ti.com/general/docs/lit/getliterature.tsp?genericPartNumber=BQ24400&fileType=pdf
footprint PW8_N (TSOP, 8-Leads, Body 3x4.4mm, Pitch 0.65mm, IPC Medium Density)
footprint PW8_L (TSOP, 8-Leads, Body 3x4.4mm, Pitch 0.65mm, IPC High Density)
footprint PW8_M (TSOP, 8-Leads, Body 3x4.4mm, Pitch 0.65mm, IPC Low Density)
pins: 1 SNS (in) "Current-sense input", 2 VSS (power) "System ground", 3 ~{LED} (hiz) "Charge-status output", 4 BAT (in) "Battery-voltage input", 5 TS (in) "Temperature-sense input", 6 RC (in) "Timer-program input", 7 VCC (power) "Supply-voltage input", 8 MOD (out) "Modulation-control output"